# EAGLE library part LTC3637 (library ArdDisp)
Linear LTC3637 Step down Regulator Vin/Vout 4-76V, Iout 0,1-1,2A Adjustable, precise Run,UVLO THR=1.22V, SS, Programable Vout: Adj 4-76V, 1.8V, 3.3V, 5.0V, Datasheet 3637fa, the most common package MSE16(12) 4x5mm LTC3637EMSE -45°C to 125°C - price 6.8$ Digi, Farnell, Arrow, but DFN16 5x3mm LTC3637EDHC is possible too, Jara 10.2.2016
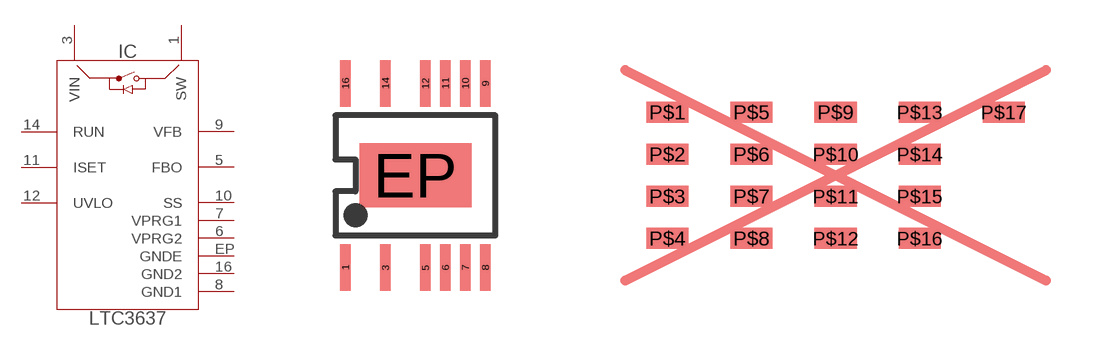
[diagram p24: symbol with the pads of MSE16(12); footprints MSE16(12), DFN16]

Designator prefix IC

## LTC3637EMSE  [MSE16(12)]
1  SW  out
3  VIN  in
5  FBO  out
6  VPRG2  in
7  VPRG1  in
8  GND1  in
9  VFB  in
10  SS  pas
11  ISET  pas
12  UVLO  in
14  RUN  in
16  GND2  in
EP  GNDE  in

## LTC3637EDHC  [DFN16]

## Footprint MSE16(12) (pad centres in mm)
Package MSE16(12) Linear LTC3637 datasheet 3637fa, page 23 - Jara 10.2.2016
smd 0.27 x 1.17: 1 -1.75,-2.3; 3 -0.75,-2.3; 5 0.25,-2.3; 6 0.75,-2.3; 7 1.25,-2.3; 8 1.75,-2.3; 9 1.75,2.3; 10 1.25,2.3; 11 0.75,2.3; 12 0.25,2.3; 14 -0.75,2.3; 16 -1.75,2.3
smd 2.8 x 1.6: EP 0,0

## Footprint DFN16 (pad centres in mm)
YOU MUST MAKE PACKAGE DFN16!!!
smd 1.27 x 0.635: P$1 -3.81,0; P$2 -3.81,-1.27; P$3 -3.81,-2.54; P$4 -3.81,-3.81; P$5 -1.27,0; P$6 -1.27,-1.27; P$7 -1.27,-2.54; P$8 -1.27,-3.81; P$9 1.27,0; P$10 1.27,-1.27; P$11 1.27,-2.54; P$12 1.27,-3.81; P$13 3.81,0; P$14 3.81,-1.27; P$15 3.81,-2.54; P$16 3.81,-3.81; P$17 6.35,0